# EAGLE library part 4-CHAN-I2CSAFE-LEVEL-SHIFTER (library AKA_test)
Adafruit I2C-safe 4 channel bidirectional level shifter Page here <https://www.adafruit.com/products/757>
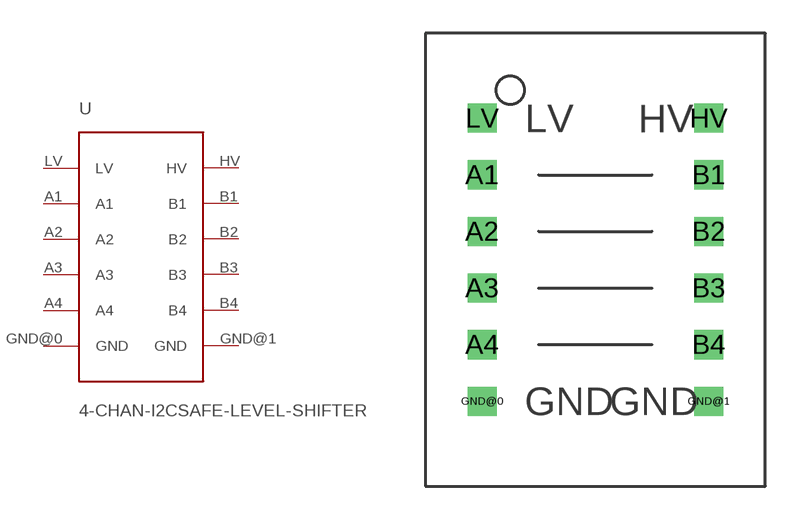
[diagram p10: symbol with the pads of 4-CHANNEL-I2CSAFE-LEVEL-SHIFTER; footprint 4-CHANNEL-I2CSAFE-LEVEL-SHIFTER]

Designator prefix -

## 4-CHAN-I2CSAFE-LEVEL-SHIFTER  [4-CHANNEL-I2CSAFE-LEVEL-SHIFTER]
A1  A1
A2  A2
A3  A3
A4  A4
B1  B1
B2  B2
B3  B3
B4  B4
GND@0  GND  pwr
GND@1  GND  pwr
HV  HV  pwr
LV  LV  pwr

## Footprint 4-CHANNEL-I2CSAFE-LEVEL-SHIFTER (pad centres in mm)
drill 0.8 square: A1 0,10.16; A2 0,7.62; A3 0,5.08; A4 0,2.54; B1 10.16,10.16; B2 10.16,7.62; B3 10.16,5.08; B4 10.16,2.54; GND@0 0,0; GND@1 10.16,0; HV 10.16,12.7; LV 0,12.7